# Altium footprint library V2.5.0_ChipSat.PcbLib: 59 footprints (part 3 of 4)
Each footprint in its own frame and in the unit in brackets; x right, y up, seen from the top. Pads: shape width x height; smd on the part's side, far side on the other; paste and mask are expansions set on the pad; w line width, h text height; cw(c..) or ccw(c..) is an arc to the next point about the centre after c.
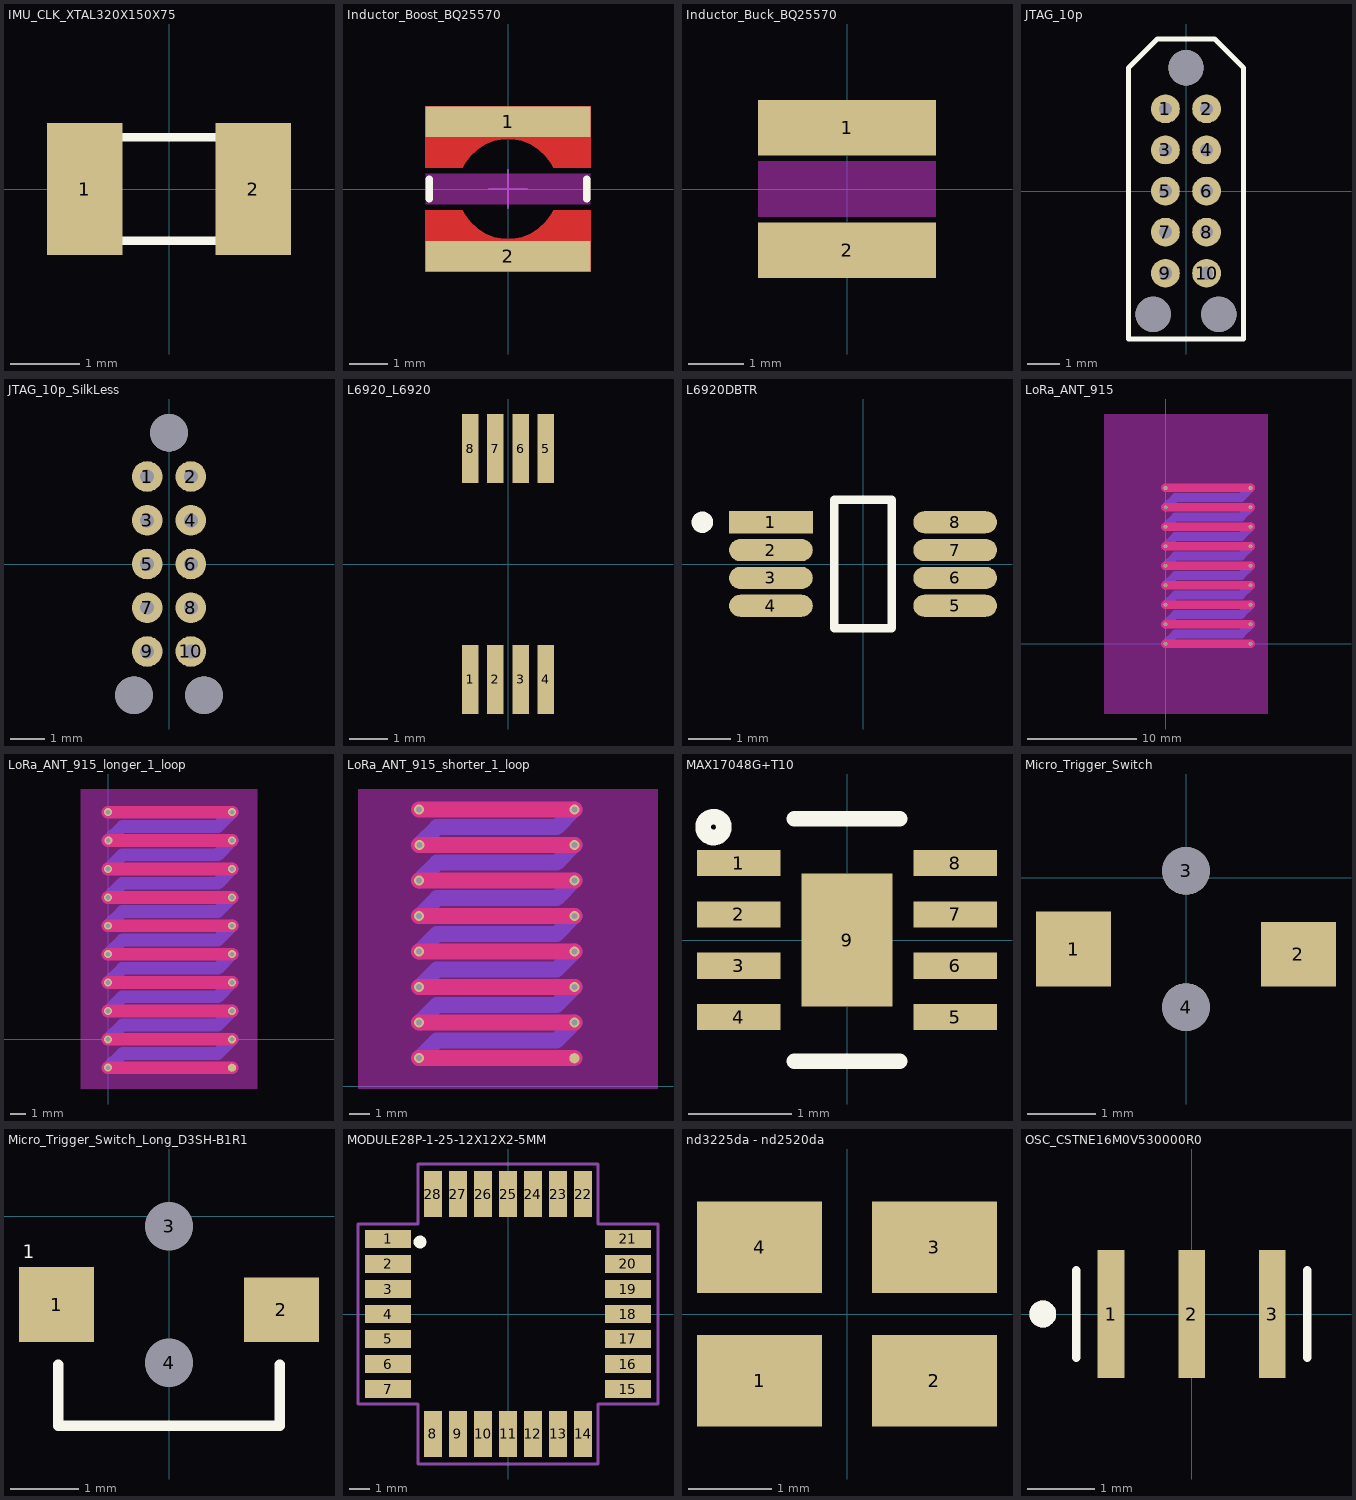
[diagram p2: the footprints below, top view; thin cyan lines are the x and y axes]

## IMU_CLK_XTAL320X150X75 [mil]
pads (2):
  rect 43x75 smd: 1(-48,0) 2(48,0)
Top Overlay:
  lines w5: -63,-29.5 -63,29.5 63,29.5 63,-29.5 -63,-29.5
3D body "step_temp.STEP": height 33.46, standoff 0, extent -62.99,-29.53 62.99,29.53

## Inductor_Boost_BQ25570 [mm] "Power Inductor, SMD, 2-Leads, body 3.8x3.8mm / 744031220 / Wuerth"
height 1.65
pads (2):
  rect 4.3x0.8 smd paste-403.566 mask-403.566: 1(0,1.75) 2(0,-1.75)
Top Layer:
  region: 2.15,-0.55 2.15,-2.15 -2.15,-2.15 -2.15,-0.55 -1.178,-0.55 -1.121,-0.658 -0.977,-0.857 -0.799,-1.026 -0.592,-1.157 -0.364,-1.248 -0.123,-1.294 0.122,-1.294 0.363,-1.248 0.592,-1.158 0.798,-1.026 0.977,-0.858 1.121,-0.659 1.178,-0.55
  region: -2.15,0.55 -2.15,2.15 2.15,2.15 2.15,0.55 1.178,0.55 1.121,0.658 0.977,0.857 0.799,1.026 0.592,1.157 0.364,1.248 0.123,1.294 -0.122,1.294 -0.363,1.248 -0.592,1.158 -0.798,1.026 -0.977,0.858 -1.121,0.659 -1.178,0.55
Top Layer keep-out:
  rectangle: -2.15,-0.4 2.15,0.4
Top Overlay:
  lines w0.2: -2.05,-0.25 -2.05,0.25 ; 2.05,-0.25 2.05,0.25
Top Component Center:
  lines w0.05: -0.5,0 0.5,0 ; 0,-0.5 0,0.5
3D body "Inductor_Boost_744031220_BQ.stp": height 1.62, standoff -0.03, extent -1.9,-1.9 1.9,1.9

## Inductor_Buck_BQ25570 [mm] "Power Inductor, SMD, 2-Leads, body 2.78x2.78mm / 744029100 / Wuerth"
height 1.35
pads (2):
  rect 3.2x1 smd: 1(0,1.1) 2(0,-1.1)
Top Layer keep-out:
  rectangle: -1.6,-0.5 1.6,0.5
3D body "Inductor_Buck_744029100_BQ.stp": height 1.17, standoff -0.03, extent -1.39,-1.39 1.39,1.39

## JTAG_10p [mil]
pads (13):
  round 35 hole 16: 1(-25,100) 2(25,100) 3(-25,50) 4(25,50) 5(-25,0) 6(25,0) 7(-25,-50) 8(25,-50) 9(-25,-100) 10(25,-100)
  round 43 hole 43 unplated mask+0: ""(-40,-150) ""(0,150) ""(40,-150)
Top Overlay:
  lines w6: -70,-180 70,-180 70,150 35,185 -35,185 -70,150 -70,-180

## JTAG_10p_SilkLess [mil]
pads (13):
  round 35 hole 16: 1(-25,100) 2(25,100) 3(-25,50) 4(25,50) 5(-25,0) 6(25,0) 7(-25,-50) 8(25,-50) 9(-25,-100) 10(25,-100)
  round 43 hole 43 unplated mask+0: ""(-40,-150) ""(0,150) ""(40,-150)

## L6920_L6920 [mm]
pads (8):
  rect 0.42x1.78 smd: 1(-0.975,-2.97) 2(-0.325,-2.97) 3(0.325,-2.97) 4(0.975,-2.97) 5(0.975,2.97) 6(0.325,2.97) 7(-0.325,2.97) 8(-0.975,2.97)

## L6920DBTR [mm]
pads (8):
  rect 1.954x0.516 smd paste+0 mask+0: 1(-2.15,0.975)
  rrect100% 1.954x0.516 smd paste+0 mask+0: 2(-2.15,0.325) 3(-2.15,-0.325) 4(-2.15,-0.975) 5(2.15,-0.975) 6(2.15,-0.325) 7(2.15,0.325) 8(2.15,0.975)
Top Overlay:
  circle w0.25: c-3.75,0.975 r0.125
  lines w0.2: -0.673,-1.5 -0.673,1.5 0.673,1.5 0.673,-1.5 -0.673,-1.5
3D body "L6920DBTR.STEP": height 1.1, standoff 0, extent -2.45,-1.5 2.45,1.5

## LoRa_ANT_915 [mm]
via 7.747,0 diameter 0.35 hole 0.28
via -0.022,0 diameter 0.35 hole 0.28
via 7.747,1.778 diameter 0.35 hole 0.28
via -0.022,1.778 diameter 0.35 hole 0.28
via 7.747,3.556 diameter 0.35 hole 0.28
via -0.022,3.556 diameter 0.35 hole 0.28
via 7.747,5.334 diameter 0.35 hole 0.28
via -0.022,5.334 diameter 0.35 hole 0.28
via 7.747,7.112 diameter 0.35 hole 0.28
via -0.022,7.112 diameter 0.35 hole 0.28
via 7.747,8.89 diameter 0.35 hole 0.28
via -0.022,8.89 diameter 0.35 hole 0.28
via 7.747,10.668 diameter 0.35 hole 0.28
via -0.022,10.668 diameter 0.35 hole 0.28
via 7.747,12.446 diameter 0.35 hole 0.28
via 7.747,14.224 diameter 0.35 hole 0.28
via -0.022,14.224 diameter 0.35 hole 0.28
via 0,12.446 diameter 0.35 hole 0.28
Top Layer:
  lines w0.8: -0.022,0 7.747,0 ; -0.022,1.778 7.747,1.778 ; -0.022,3.556 7.747,3.556 ; -0.022,5.334 7.747,5.334 ; -0.022,7.112 7.747,7.112 ; -0.022,8.89 7.747,8.89 ; -0.022,10.668 7.747,10.668 ; -0.022,12.446 7.747,12.446 ; -0.022,14.224 7.747,14.224
Bottom Layer:
  lines w0.254: -0.011,0 0,0 ; -0.011,1.778 0,1.778 ; -0.011,3.556 0,3.556 ; -0.011,5.334 0,5.334 ; -0.011,7.112 0,7.112 ; -0.011,8.89 0,8.89 ; -0.011,10.668 0,10.668 ; -0.011,12.446 0,12.446 ; -0.011,14.224 0,14.224
  lines w0.8: 0,0 0.889,0.889 6.858,0.889 7.747,1.778 ; 0,1.778 0.889,2.667 6.858,2.667 7.747,3.556 ; 0,3.556 0.889,4.445 6.858,4.445 7.747,5.334 ; 0,5.334 0.889,6.223 6.858,6.223 7.747,7.112 ; 0,7.112 0.889,8.001 6.858,8.001 7.747,8.89 ; 0,8.89 0.889,9.779 6.858,9.779 7.747,10.668 ; 0,10.668 0.889,11.557 6.858,11.557 7.747,12.446 ; 0,12.446 0.889,13.335 6.858,13.335 7.747,14.224
Top Solder:
  lines w0.85: 3.149,14.224 4.699,14.224
Keep-Out Layer:
  rectangle: -5.653,-6.412 9.347,20.961

## LoRa_ANT_915_longer_1_loop [mil]
pads (1):
  round 20 smd paste-99999 mask+4: ANT(304.96,-70.01)
via 0,490 diameter 19.68 hole 11.81
via -0.87,560 diameter 19.68 hole 11.81
via 305,560 diameter 19.68 hole 11.81
via 305,490 diameter 19.68 hole 11.81
via -0.87,420 diameter 19.68 hole 11.81
via 305,420 diameter 19.68 hole 11.81
via -0.87,350 diameter 19.68 hole 11.81
via 305,350 diameter 19.68 hole 11.81
via -0.87,280 diameter 19.68 hole 11.81
via 305,280 diameter 19.68 hole 11.81
via -0.87,210 diameter 19.68 hole 11.81
via 305,210 diameter 19.68 hole 11.81
via -0.87,140 diameter 19.68 hole 11.81
via 305,140 diameter 19.68 hole 11.81
via -0.87,70 diameter 19.68 hole 11.81
via 305,70 diameter 19.68 hole 11.81
via 305,0 diameter 19.68 hole 11.81
via -0.91,-70.01 diameter 19.68 hole 11.81
via -0.87,0 diameter 19.68 hole 11.81
Top Layer:
  lines w31.5: -0.91,-70.01 304.96,-70.01 ; -0.87,0 305,0 ; -0.87,70 305,70 ; -0.87,140 305,140 ; -0.87,210 305,210 ; -0.87,280 305,280 ; -0.87,350 305,350 ; -0.87,420 305,420 ; -0.87,490 305,490 ; -0.87,560 305,560
Bottom Layer:
  lines w10: -0.47,-70.01 -0.04,-70.01 ; -0.43,0 0,0 ; -0.43,70 0,70 ; -0.43,140 0,140 ; -0.43,210 0,210 ; -0.43,280 0,280 ; -0.43,350 0,350 ; -0.43,420 0,420 ; -0.43,490 0,490 ; -0.43,560 0,560
  lines w31.5: -0.04,-70.01 34.96,-35.01 269.96,-35.01 304.96,-0.01 ; 0,0 35,35 270,35 305,70 ; 0,70 35,105 270,105 305,140 ; 0,140 35,175 270,175 305,210 ; 0,210 35,245 270,245 305,280 ; 0,280 35,315 270,315 305,350 ; 0,350 35,385 270,385 305,420 ; 0,420 35,455 270,455 305,490 ; 0,490 35,525 270,525 305,560
Keep-Out Layer:
  rectangle: -68.7,-122.5 367.99,617.2

## LoRa_ANT_915_shorter_1_loop [mil]
pads (1):
  round 20 smd paste-99999 mask+0: ANT(-200,55)
via -505,475 diameter 19.68 hole 11.81
via -505.87,545 diameter 19.68 hole 11.81
via -200,545 diameter 19.68 hole 11.81
via -505.87,405 diameter 19.68 hole 11.81
via -200,405 diameter 19.68 hole 11.81
via -505.87,335 diameter 19.68 hole 11.81
via -200,335 diameter 19.68 hole 11.81
via -505.87,265 diameter 19.68 hole 11.81
via -200,265 diameter 19.68 hole 11.81
via -505.87,195 diameter 19.68 hole 11.81
via -200,195 diameter 19.68 hole 11.81
via -505.87,125 diameter 19.68 hole 11.81
via -200,125 diameter 19.68 hole 11.81
via -505.87,55 diameter 19.68 hole 11.81
via -200,475 diameter 19.68 hole 11.81
Top Layer:
  lines w31.5: -505.87,55 -200,55 ; -505.87,125 -200,125 ; -505.87,195 -200,195 ; -505.87,265 -200,265 ; -505.87,335 -200,335 ; -505.87,405 -200,405 ; -505.87,475 -200,475 ; -505.87,545 -200,545
Bottom Layer:
  lines w10: -505.43,55 -505,55 ; -505.43,125 -505,125 ; -505.43,195 -505,195 ; -505.43,265 -505,265 ; -505.43,335 -505,335 ; -505.43,405 -505,405 ; -505.43,475 -505,475 ; -505.43,545 -505,545
  lines w31.5: -505,55 -470,90 -235,90 -200,125 ; -505,125 -470,160 -235,160 -200,195 ; -505,195 -470,230 -235,230 -200,265 ; -505,265 -470,300 -235,300 -200,335 ; -505,335 -470,370 -235,370 -200,405 ; -505,405 -470,440 -235,440 -200,475 ; -505,475 -470,510 -235,510 -200,545
Keep-Out Layer:
  rectangle: -625.98,-5.55 -35.43,585

## MAX17048G+T10 [mil] "https://www.digikey.com/en/products/detail/analog-devices-inc-maxim-integrated/MAX17048G-T10/3758921"
pads (9):
  rect 32x10 smd paste+0 mask+0: 1(-41.5,29.53) 2(-41.5,9.84) 3(-41.5,-9.84) 4(-41.5,-29.53) 5(41.5,-29.53) 6(41.5,-9.84) 7(41.5,9.84) 8(41.5,29.53)
  rect 35x51 smd paste+0 mask+0: 9(0,0)
Top Overlay:
  circle w6: c-51.18,43.31 r4
  lines w6: -20.18,-46.5 20.18,-46.5 ; -20.18,46.5 20.18,46.5
3D body "21-0168E_T822-3_MXM.step": height 32.09, standoff 0, extent -41.5,-41.5 41.5,41.5

## Micro_Trigger_Switch [mm]
pads (4):
  rect 1.1x1.1 smd paste+0 mask+0: 1(-1.65,-1.05)
  rect 1.1x0.95 smd paste+0 mask+0: 2(1.65,-1.125)
  round 0.7 / inner round 1.524 / far side round 0.7 hole 0.7 unplated paste-2539.97 mask+0: 3(0,0.1) 4(0,-1.9)
3D body "Micro_Trigger_Switch.step": height 0.9, standoff 0, extent -1.89,-2.65 1.89,2.35

## Micro_Trigger_Switch_Long_D3SH-B1R1 [mm] "Micro_Trigger_Switch_D3SH-B1R1"
pads (4):
  rect 1.1x1.1 smd paste+0 mask+0: 1(-1.65,-1.3)
  rect 1.1x0.95 smd paste+0 mask+0: 2(1.65,-1.375)
  round 0.7 / inner round 1.524 / far side round 0.7 hole 0.711 paste-2539.97 mask-0.356: 3(0,-0.15) 4(0,-2.15)
Top Overlay:
  lines w0.152: -1.627,-2.183 -1.627,-3.077 1.627,-3.077 1.627,-2.183
  text "1" at -2.145,-0.62 h0.2
3D body "Micro_Trigger_Switch_Long_D3SH-B1R1.step": height 0.9, standoff 0, extent -1.915,-2.95 2.479,2.45

## MODULE28P-1-25-12X12X2-5MM [mm] "This is for the Seeed Studio Wio E-5"
pads (28):
  rect 2.3x0.9 smd: 1(-6,3.75) 2(-6,2.5) 3(-6,1.25) 4(-6,0) 5(-6,-1.25) 6(-6,-2.5) 7(-6,-3.75) 15(6,-3.75) 16(6,-2.5) 17(6,-1.25) 18(6,0) 19(6,1.25) 20(6,2.5) 21(6,3.75)
  rect 0.9x2.3 smd: 8(-3.75,-6) 9(-2.5,-6) 10(-1.25,-6) 11(0,-6) 12(1.25,-6) 13(2.5,-6) 14(3.75,-6) 22(3.75,6) 23(2.5,6) 24(1.25,6) 25(0,6) 26(-1.25,6) 27(-2.5,6) 28(-3.75,6)
Top Overlay:
  circle w0.381: c-4.4,3.6 r0.127
Top Courtyard:
  lines w0.152: -7.5,-4.5 -4.5,-4.5 -4.5,-5 -4.5,-7.5 4.5,-7.5 4.5,-4.5 7.5,-4.5 7.5,4.5 4.5,4.5 4.5,7.5 -4.5,7.5 -4.5,4.5 -7.5,4.5 -7.5,-4.5
3D body "Wio_E5.step": height 2.49, standoff 0, extent -7.15,-7.15 7.15,7.15

## nd3225da - nd2520da [mm] "Crystal SMD 3.2x2.5mm compatible with 2.5x2.0mm"
height 0.8
pads (4):
  rect 1.5x1.1 smd mask+0.05: 1(-1.05,-0.8) 2(1.05,-0.8) 3(1.05,0.8) 4(-1.05,0.8)

## OSC_CSTNE16M0V530000R0 [mm]
pads (3):
  rect 0.4x1.9 smd: 1(-1.2,0) 2(0,0) 3(1.2,0)
Top Overlay:
  circle w0.2: c-2.22,0 r0.1
  lines w0.127: -1.72,-0.65 -1.72,0.65 ; 1.72,-0.65 1.72,0.65
Mechanical 13:
  circle w0.2: c-2.22,0 r0.1